# Altium schematic symbol library Components - 30.03.22 - 08.27.SchLib: 1 symbol
Pins are listed as number, name and electrical type; pins without a type are passive.

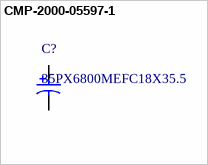
[diagram p0: symbol CMP-2000-05597-1]

## CMP-2000-05597-1
designator C?, comment 35PX6800MEFC18X35.5
Miniature Aluminum Electrolytic Capacitor, 6.8 mF, -55 to 105 degC, 2-Pin THD, RoHS, Bulk; Manufacturer: Rubycon; Tolerance: ±20%; Ripple Current: 1.92A; Lifetime @ Temp.: 2000Hrs@105°C; Voltage Rating: 35V; Capacitance: 6800µF; Type: -; Datasheet URL: http://www.rubycon.co.jp/en/catalog/e_pdfs/aluminum/e_px.pdf; Family: AluminumCapacitors; Mounting Technology: ThroughHole; Impedance: -; Package Description: 2-Pin Through Hole Device, Dia 18 mm; Size / Dimension: 0.709"Dia(18.00mm); Packaging: Bulk; Mounting Type: ThroughHole; Series: PX; Category: Capacitors; Standard Package: 200; Operating Temperature: -55°C~105°C; Height - Seated (Max): 1.476"(37.50mm); ESR (Equivalent Series Resistance): -; Manufacturer URL: http://www.rubycon.co.jp/; Lead Spacing: 0.295"(7.50mm); Package / Case: Radial,Can; Datasheet Version: 10/2015; Applications: GeneralPurpose; Surface Mount Land Size: -; Package Reference: 35PX6800MEFC18X35.5
footprint RBCN-35PX6800MEFC18X35.5 (THD, 2-Leads, Dia 18mm)
pins: 1, 2